# EAGLE library part ESP12 (library Module)
ESP8266 WiFi module 12
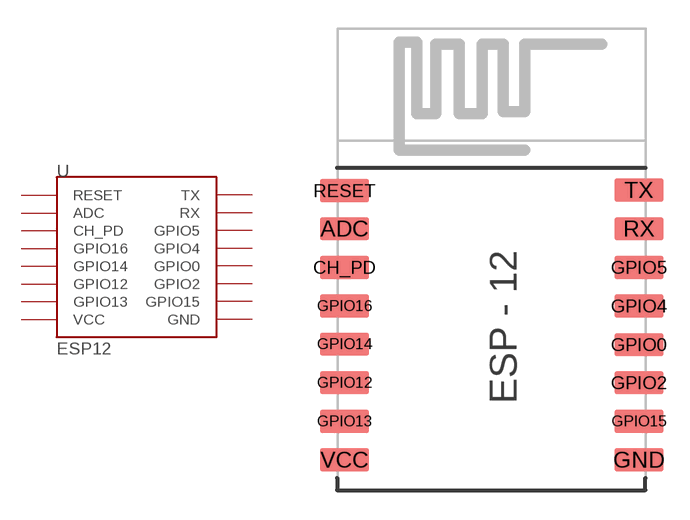
[diagram p6: symbol with the pads of ESP12; footprint ESP12]

Designator prefix -

## ESP12 (CYTRON-PC: ESP12; DESC: ESP8266 WiFi Module 12; MPN: ESP12)  [ESP12]
ADC  ADC
CH_PD  CH_PD
GND  GND
GPIO0  GPIO0
GPIO2  GPIO2
GPIO4  GPIO4
GPIO5  GPIO5
GPIO12  GPIO12
GPIO13  GPIO13
GPIO14  GPIO14
GPIO15  GPIO15
GPIO16  GPIO16
RESET  RESET
RX  RX
TX  TX
VCC  VCC

## Footprint ESP12 (pad centres in mm)
ESP8266 Module 12
smd 2.54 x 1.219: ADC -7.747,3.81; CH_PD -7.747,1.803; GND 7.544,-8.204; GPIO0 7.544,-2.21; GPIO2 7.544,-4.191; GPIO4 7.544,-0.203; GPIO5 7.544,1.803; GPIO12 -7.747,-4.191; GPIO13 -7.747,-6.198; GPIO14 -7.747,-2.184; GPIO15 7.544,-6.198; GPIO16 -7.747,-0.203; RESET -7.747,5.791; RX 7.544,3.81; TX 7.544,5.817; VCC -7.747,-8.204